# Altium schematic symbol library FSM4JSMATR.Schlib: 1 symbol
Pins are listed as number, name and electrical type; pins without a type are passive.

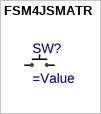
[diagram p0: symbol FSM4JSMATR]

## FSM4JSMATR
designator SW?
SWITCH TACTILE SPST-NO 0.05A 12V
pins: A, B